# EAGLE library part L298N (library L298N)
Dual Full Bridge Motor Driver 15-Pin(15+Tab) MULTIWATT V Tube Check availability <https://pricing.snapeda.com/parts/L298N/STMicroelectronics/view-part?ref=eda>
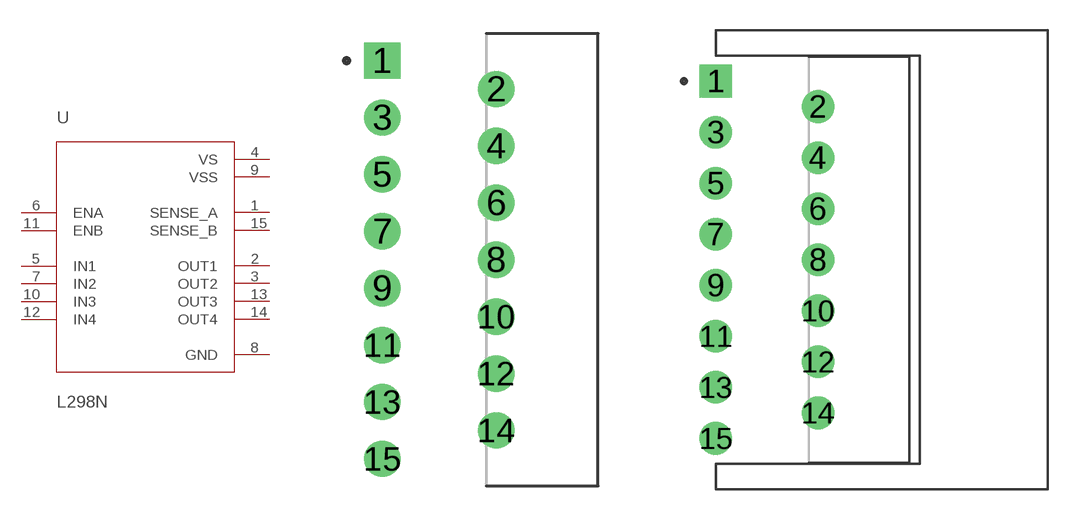
[diagram p0: symbol with the pads of TO127P2020X500X2100-15; footprints TO127P2020X500X2100-15, TO127P2020X500X2100-15-HEATSINK]

Designator prefix U

## L298N (AVAILABILITY: In Stock; CHECK_PRICES: https://www.snapeda.com/parts/L298N/STMicroelectronics/view-part/?ref=eda; DESCRIPTION: Half Bridge (4) Driver DC Motors, Relays, Solenoids, Stepper Motors Bipolar 15-Multiwatt; MF: STMicroelectronics; MP: L298N; PACKAGE: Multiwatt-15 STMicroelectronics; PRICE: None; PURCHASE-URL: https://www.snapeda.com/api/url_track_click_mouser/?unipart_id=49315&manufacturer=STMicroelectronics&part_name=L298N&search_term=l298n; SNAPEDA_LINK: https://www.snapeda.com/parts/L298N/STMicroelectronics/view-part/?ref=snap)  [TO127P2020X500X2100-15]
1  SENSE_A  pas
2  OUT1  out
3  OUT2  out
4  VS  pwr
5  IN1  in
6  ENA  in
7  IN2  in
8  GND  pwr
9  VSS  in
10  IN3  in
11  ENB  in
12  IN4  in
13  OUT3  out
14  OUT4  out
15  SENSE_B  pas

## L298NHEATSINK  [TO127P2020X500X2100-15-HEATSINK]
Pads as for TO127P2020X500X2100-15

## Footprint TO127P2020X500X2100-15 (pad centres in mm)
drill 1.08 pad 1.62 square: 1 0,0
drill 1.08 pad 1.62: 2 5.08,-1.27; 3 0,-2.54; 4 5.08,-3.81; 5 0,-5.08; 6 5.08,-6.35; 7 0,-7.62; 8 5.08,-8.89; 9 0,-10.16; 10 5.08,-11.43; 11 0,-12.7; 12 5.08,-13.97; 13 0,-15.24; 14 5.08,-16.51; 15 0,-17.78

## Footprint TO127P2020X500X2100-15-HEATSINK (pad centres in mm)
drill 1.08 pad 1.62 square: 1 0,0
drill 1.08 pad 1.62: 2 5.08,-1.27; 3 0,-2.54; 4 5.08,-3.81; 5 0,-5.08; 6 5.08,-6.35; 7 0,-7.62; 8 5.08,-8.89; 9 0,-10.16; 10 5.08,-11.43; 11 0,-12.7; 12 5.08,-13.97; 13 0,-15.24; 14 5.08,-16.51; 15 0,-17.78